# EAGLE library part UX60-MB- (library squonk)
MINI USB Connector Source: http://www.hirose.co.jp/cataloge_hp/e24000019.pdf
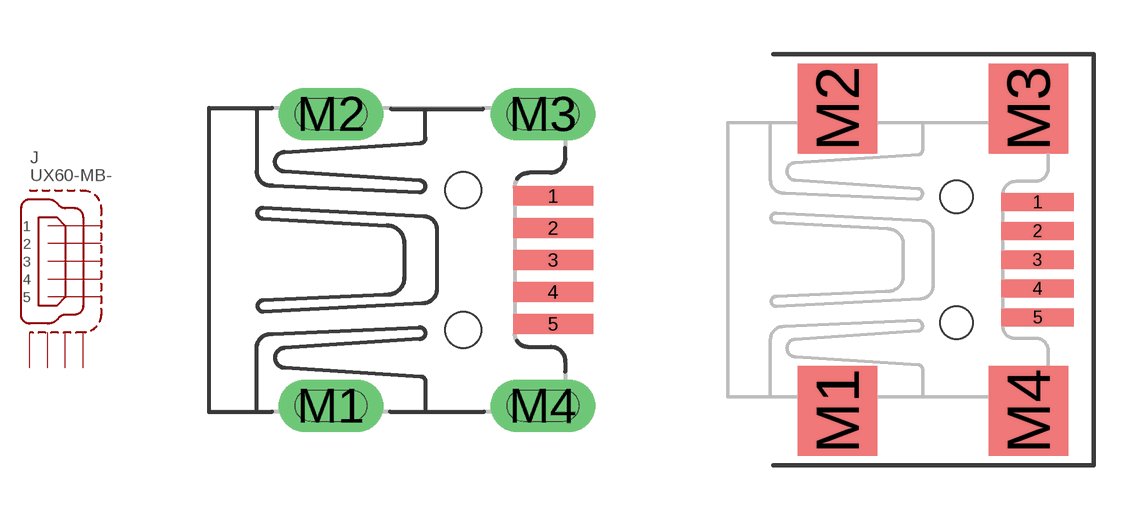
[diagram p3: symbol with the pads of UX60-MB-5S8; footprints UX60-MB-5S8, UX60-MB-5ST]

Designator prefix J

## UX60-MB-5S8  [UX60-MB-5S8]
1  1  pas
2  2  pas
3  3  pas
4  4  pas
5  5  pas
M1  M1  pas
M2  M2  pas
M3  M3  pas
M4  M4  pas

## UX60-MB-5ST  [UX60-MB-5ST]
Pads as for UX60-MB-5S8

## Footprint UX60-MB-5S8 (pad centres in mm)
MINI USB Connector HI-SPEED Certified Metal Shield Dip Type With Positioning Post Source: http://www.hirose.co.jp/cataloge_hp/e24000019.pdf
smd 2 x 0.5: 1 8.65,1.6; 2 8.65,0.8; 3 8.65,0; 4 8.65,-0.8; 5 8.65,-1.6
drill 0.8 long: M1 3.1,-3.65; M2 3.1,3.65; M3 8.4,3.65; M4 8.4,-3.65
hole 0.9 at 6.4,-1.75
hole 0.9 at 6.4,1.75

## Footprint UX60-MB-5ST (pad centres in mm)
MINI USB Connector HI-SPEED Certified Metal Shield SMT Type With Positioning Post Source: http://www.hirose.co.jp/cataloge_hp/e24000019.pdf
smd 2 x 0.5: 1 2.25,1.6; 2 2.25,0.8; 3 2.25,0; 4 2.25,-0.8; 5 2.25,-1.6
smd 2.2 x 2.5: M1 -3.3,-4.2; M2 -3.3,4.2; M3 2,4.2; M4 2,-4.2
hole 0.9 at 0,-1.75
hole 0.9 at 0,1.75